# Altium footprint library Datalogger.PcbLib: 24 footprints (part 2 of 2)
Each footprint in its own frame and in the unit in brackets; x right, y up, seen from the top. Pads: shape width x height; smd on the part's side, far side on the other; paste and mask are expansions set on the pad; w line width, h text height; cw(c..) or ccw(c..) is an arc to the next point about the centre after c.
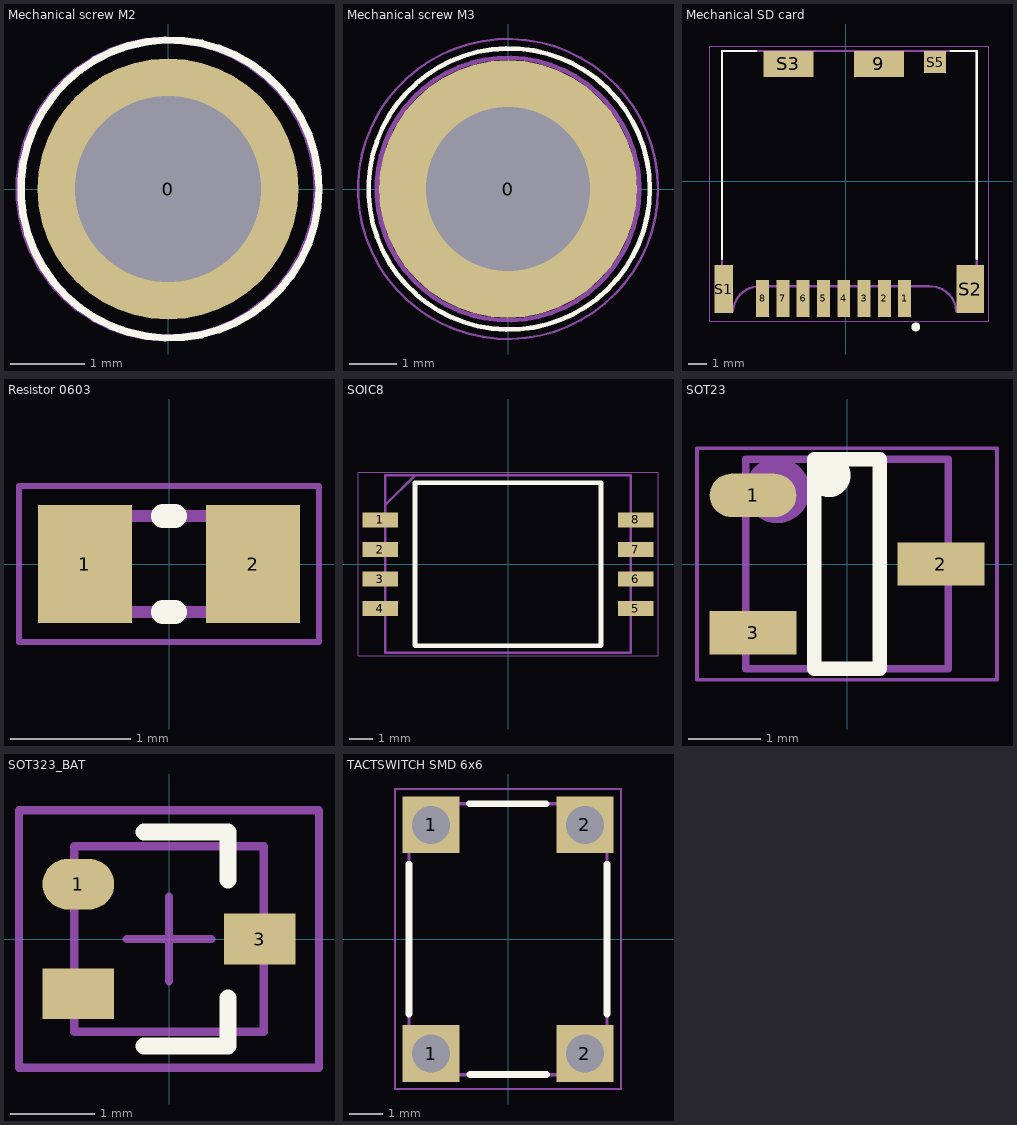
[diagram p1: the footprints below, top view; thin cyan lines are the x and y axes]

## Mechanical screw M2 [mm]
pads (1):
  round 3.5 hole 2.5: 0(0,0)
Top Overlay:
  circle w0.1: c0.025,0 r2
Mechanical 13:
  circle w0.1: c0,0 r2
  text ".Designator" at 0,0 h0.5
Mechanical 15:
  circle w0.05: c0,0 r2
3D body "TR Fastenings Ltd-M2X3MM.step": height 2, standoff -3, extent -1.9,-1.9 1.9,1.9

## Mechanical screw M3 [mm]
pads (1):
  round 5.5 hole 3.5: 0(0,0)
Top Overlay:
  circle w0.1: c0.025,0 r3
Mechanical 13:
  circle w0.1: c0,0 r2.8
  text ".Designator" at 0,0 h0.5
Mechanical 15:
  circle w0.05: c0,0 r3.2
3D body "TR Fastenings Ltd-M3X5MM.step": height 3, standoff -5, extent -2.75,-2.75 2.75,2.75

## Mechanical SD card [mm]
pads (13):
  rect 0.7x2 smd: 1(3.2,-6.35) 2(2.1,-6.35) 3(1,-6.35) 4(-0.1,-6.35) 5(-1.2,-6.35) 6(-2.3,-6.35) 7(-3.4,-6.35) 8(-4.5,-6.35)
  rect 2.7x1.4 smd: 9(1.8,6.35) S3(-3.1,6.35)
  rect 1x2.6 smd: S1(-6.6,-5.85)
  rect 1.5x2.6 smd: S2(6.75,-5.85)
  rect 1.2x1.2 smd: S5(4.85,6.45)
Top Overlay:
  circle w0.24: c3.8,-7.9 r0.12
  lines w0.127: -6.7,-4.2 -6.7,7.05 -4.826,7.05 ; 5.7,7.05 7.1,7.05 7.1,-4.2
Mechanical 13:
  lines w0.127: 4.5,-5.7 -4.6,-5.7 ccw(c-4.675,-7.125) -6.1,-7.05 -6.7,-7.05 -6.7,7.05 7.1,7.05 7.1,-7.05 6,-7.05 ccw(c4.575,-7.125) 4.5,-5.7
  text ".Designator" at -4.85,-0.8 h2
Mechanical 15:
  lines w0.05: -7.35,-7.6 7.75,-7.6 7.75,7.3 -7.35,7.3 -7.35,-7.6
3D body "DM3CS-SF.stp": height 1.98, standoff 0.05, extent -6.7,-7.05 7.1,7.05

## Resistor 0603 [mm]
pads (2):
  rect 0.78x0.98 smd: 1(-0.7,0) 2(0.7,0)
Top Overlay:
  lines w0.2: -0.05,-0.4 0.05,-0.4 ; -0.05,0.4 0.05,0.4
Mechanical 13:
  lines w0.1: -0.8,-0.4 -0.8,0.4 0.8,0.4 0.8,-0.4 -0.8,-0.4
  text ".Designator" at -0.8,-0.225 h0.5
Mechanical 15:
  lines w0.05: -1.25,-0.65 -1.25,0.65 1.25,0.65 1.25,-0.65 -1.25,-0.65
3D body "User Library-SMD RESISTOR-1 (1).step": height 0.43, standoff -0.03, extent -0.85,-0.4 0.75,0.4

## SOIC8 [mm]
pads (8):
  rect 1.525x0.65 smd: 1(-5.5,1.905) 2(-5.5,0.635) 3(-5.5,-0.635) 4(-5.5,-1.905) 5(5.5,-1.905) 6(5.5,-0.635) 7(5.5,0.635) 8(5.5,1.905)
Top Overlay:
  lines w0.2: -4,-3.5 4,-3.5 4,3.5 -4,3.5 -4,-3.5
Mechanical 13:
  lines w0.1: -5.275,2.55 -4.005,3.82 ; -5.275,-3.8 5.275,-3.8 5.275,3.825 -5.275,3.825 -5.275,-3.8
  text ".Designator" at 0,0 h0.51
Mechanical 15:
  lines w0.05: -6.45,-3.925 6.45,-3.925 6.45,3.95 -6.45,3.95 -6.45,-3.925
3D body "User Library-SOIC-8-W7_5mm(SOT176-1).STEP": height 2.5, standoff 0, extent -5.267,-3.825 5.267,3.825

## SOT23 [mm] "SOT23, 3-Leads, Body 2.9x1.3mm, Pitch 0.95mm, Lead Span 2.5mm, IPC High Density"
height 1.1
pads (3):
  oval 1.2x0.6 smd: 1(-1.3,0.95)
  rect 1.2x0.6 smd: 2(1.3,0) 3(-1.3,-0.95)
Top Overlay:
  circle w0.3: c-0.25,1.225 r0.15
  lines w0.2: -0.45,-1.45 -0.45,1.45 0.45,1.45 0.45,-1.45 -0.45,-1.45
Mechanical 13:
  lines w0.1: -1.4,-1.45 -1.4,1.45 1.4,1.45 1.4,-1.45 -1.4,-1.45
  lines w0.5: -0.765,1.016 cw(c-0.965,1.016) -0.766,1.037
  text ".Designator" at -1.075,-0.1 h0.5
Mechanical 15:
  lines w0.05: -2.075,-1.6 -2.075,1.6 2.075,1.6 2.075,-1.6 -2.075,-1.6
3D body "CircuitWorks-SOT-23.step": height 1.06, standoff -0.04, extent -1.25,-1.5 1.25,1.5

## SOT323_BAT [mm]
pads (3):
  oval 0.85x0.6 smd: 1(-1.075,0.65)
  rect 0.85x0.6 smd: 3(1.075,0) ""(-1.075,-0.65)
Top Overlay:
  lines w0.2: -0.3,-1.27 0.7,-1.27 0.7,-0.7 ; -0.3,1.27 0.7,1.27 0.7,0.7
Mechanical 13:
  lines w0.1: -1.122,-1.1 -1.122,1.1 1.123,1.1 1.123,-1.1 -1.122,-1.1
  text ".Designator" at 0,0 h0.51
Mechanical 15:
  lines w0.1: -0.5,0 0.5,0 ; 0,-0.5 0,0.5 ; -1.778,-1.524 -1.778,1.524 1.778,1.524 1.778,-1.524 -1.778,-1.524
3D body "User Library-SOT323 (SC70-3)-1.STEP": height 1.1, standoff 0, extent -1.122,-1.1 1.123,1.1

## TACTSWITCH SMD 6x6 [mm]
pads (4):
  rect 1.725x1.725 hole 1.15: 1(-2.33,-3.466) 1(-2.33,3.466) 2(2.33,-3.466) 2(2.33,3.466)
Top Overlay:
  lines w0.2: -3,-2.275 -3,2.275 ; -1.175,4.1 1.15,4.1 ; -1.15,-4.1 1.175,-4.1 ; 3,-2.275 3,2.275
Mechanical 13:
  lines w0.1: -3,-4.106 -3,4.106 3,4.106 3,-4.106 -3,-4.106
  text "'.Designator'" at 0,0 h0.76
Mechanical 15:
  lines w0.05: -3.425,-4.541 3.425,-4.541 3.425,4.55 -3.425,4.55 -3.425,-4.541
3D body "Mechanical tactswitch THT.step": height 9.5, standoff -3.5, extent -3,-4.106 3,4.106